# Altium schematic symbol library Fuse Thermal.Schlib: 1 symbol
Pins are listed as number, name and electrical type; pins without a type are passive.

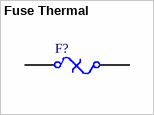
[diagram p0: symbol Fuse Thermal]

## Fuse Thermal
designator F?
Thermal Fuse
pins: 1, 2